# EAGLE library part ATA6631 (library prototype)
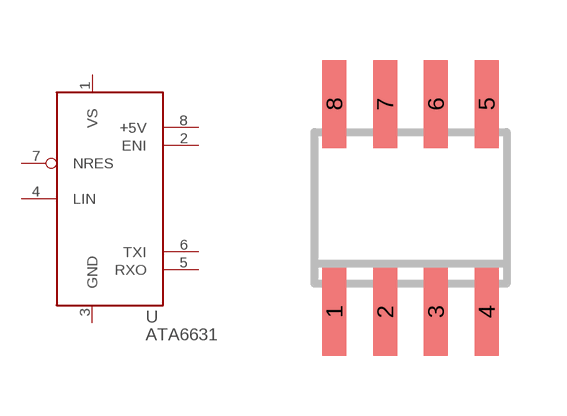
[diagram p0: symbol with the pads of SO-08; footprint SO-08]

Designator prefix -

## ATA6631  [SO-08]
1  VS  pwr
2  ENI  in
3  GND  pwr
4  LIN
5  RXO  out
6  TXI  in
7  NRES  out
8  +5V  sup

## Footprint SO-08 (pad centres in mm)
Small Outline Narrow Plastic Gull Wing 150-mil body, package type SN
smd 0.6 x 2.2: 1 -1.905,-2.6; 2 -0.635,-2.6; 3 0.635,-2.6; 4 1.905,-2.6; 5 1.905,2.6; 6 0.635,2.6; 7 -0.635,2.6; 8 -1.905,2.6